# Altium schematic symbol library TPS61022.SchLib: 1 symbol
Pins are listed as number, name and electrical type; pins without a type are passive.

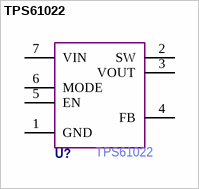
[diagram p0: symbol TPS61022]

## TPS61022
designator U?  Manufacturer Part Number: TPS61022  (hidden comment: *)
pins: 1 GND, 2 SW, 3 VOUT, 4 FB, 5 EN, 6 MODE, 7 VIN